# EAGLE library part NX3008PBKS (library jason_eagle6)
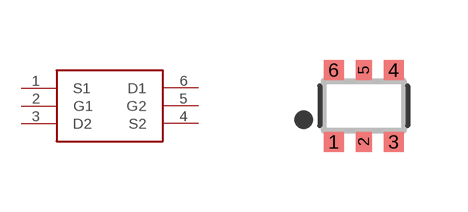
[diagram p11: symbol with the pads of SOT363; footprint SOT363]

Designator prefix -

## NX3008PBKS  [SOT363]
1  S1
2  G1
3  D2
4  S2
5  G2
6  D1

## Footprint SOT363 (pad centres in mm)
Source: http://www.nxp.com/documents/data_sheet/2N7002PS.pdf
smd 0.5 x 0.5: 1 -0.75,-0.9; 3 0.75,-0.9; 4 0.75,0.9; 6 -0.75,0.9
smd 0.4 x 0.5: 2 0,-0.9; 5 0,0.9